# Altium schematic symbol library TEXTFRAME_TEST.SchLib: 1 symbol
Pins are listed as number, name and electrical type; pins without a type are passive.

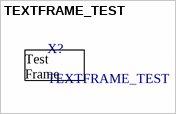
[diagram p0: symbol TEXTFRAME_TEST]

## TEXTFRAME_TEST
designator X?
Test text frame properties
text: Test Frame